# EAGLE library part INA219BIDCNT (library INA219BIDCNT)
Check prices <https://pricing.snapeda.com/parts/INA219BIDCNT/Texas%20Instruments/view-part?ref=eda>
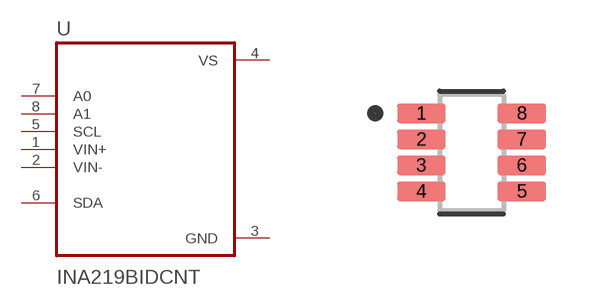
[diagram p0: symbol with the pads of SOT65P280X145-8N; footprint SOT65P280X145-8N]

Designator prefix U

## INA219BIDCNT (AVAILABILITY: Warning; DESCRIPTION: 26V, 12-bit, i2c output current/voltage/power monitor 8-SOT-23 -40 to 125; MF: Texas Instruments; MP: INA219BIDCNT; PACKAGE: SOT-23-8 Texas Instruments; PRICE: None; PURCHASE-URL: https://pricing.snapeda.com/search/part/INA219BIDCNT/?ref=eda)  [SOT65P280X145-8N]
1  VIN+  in
2  VIN-  in
3  GND  pwr
4  VS  pwr
5  SCL  in
6  SDA
7  A0  in
8  A1  in

## Footprint SOT65P280X145-8N (pad centres in mm)
smd 1.21 x 0.48: 1 -1.255,0.975; 2 -1.255,0.325; 3 -1.255,-0.325; 4 -1.255,-0.975; 5 1.255,-0.975; 6 1.255,-0.325; 7 1.255,0.325; 8 1.255,0.975